# Altium footprint library STM32H753AII6.PcbLib: 1 footprints
Each footprint in its own frame and in the unit in brackets; x right, y up, seen from the top. Pads: shape width x height; smd on the part's side, far side on the other; paste and mask are expansions set on the pad; w line width, h text height; cw(c..) or ccw(c..) is an arc to the next point about the centre after c.
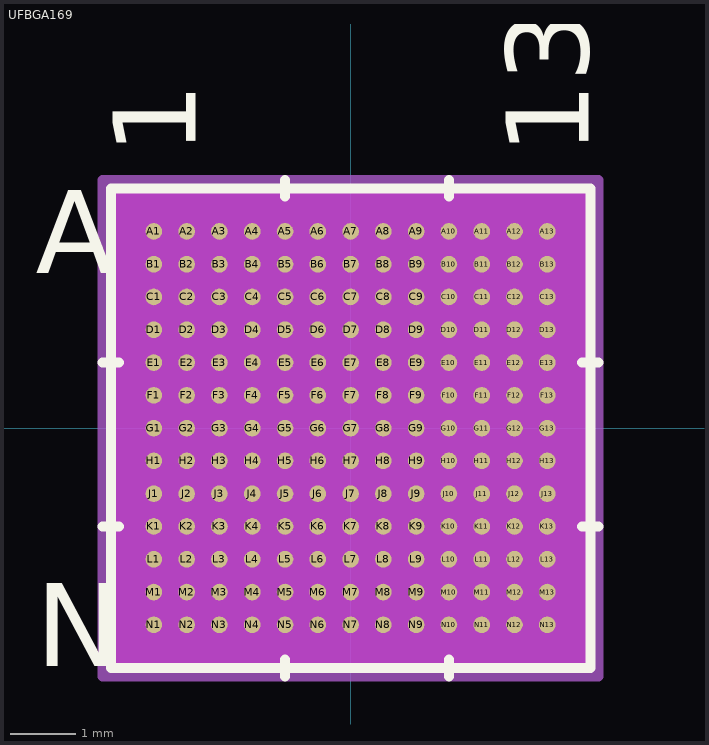
[diagram p0: the footprint, top view; thin cyan lines are the x and y axes]

## UFBGA169 [mil]
pads (169):
  round 10 smd paste+0 mask+0: A1(-118.11,118.11) A2(-98.43,118.11) A3(-78.74,118.11) A4(-59.06,118.11) A5(-39.37,118.11) A6(-19.68,118.11) A7(0,118.11) A8(19.68,118.11) A9(39.37,118.11) A10(59.06,118.11) A11(78.74,118.11) A12(98.43,118.11) A13(118.11,118.11) B1(-118.11,98.43) B2(-98.43,98.43) B3(-78.74,98.43) B4(-59.06,98.43) B5(-39.37,98.43) B6(-19.68,98.43) B7(0,98.43) B8(19.68,98.43) B9(39.37,98.43) B10(59.06,98.43) B11(78.74,98.43) B12(98.43,98.43) B13(118.11,98.43) C1(-118.11,78.74) C2(-98.43,78.74) C3(-78.74,78.74) C4(-59.06,78.74) C5(-39.37,78.74) C6(-19.68,78.74) C7(0,78.74) C8(19.68,78.74) C9(39.37,78.74) C10(59.06,78.74) C11(78.74,78.74) C12(98.43,78.74) C13(118.11,78.74) D1(-118.11,59.06) D2(-98.43,59.06) D3(-78.74,59.06) D4(-59.06,59.06) D5(-39.37,59.06) D6(-19.68,59.06) D7(0,59.06) D8(19.68,59.06) D9(39.37,59.06) D10(59.06,59.06) D11(78.74,59.06) D12(98.43,59.06) D13(118.11,59.06) E1(-118.11,39.37) E2(-98.43,39.37) E3(-78.74,39.37) E4(-59.06,39.37) E5(-39.37,39.37) E6(-19.68,39.37) E7(0,39.37) E8(19.68,39.37) E9(39.37,39.37) E10(59.06,39.37) E11(78.74,39.37) E12(98.43,39.37) E13(118.11,39.37) F1(-118.11,19.68) F2(-98.43,19.68) F3(-78.74,19.68) F4(-59.06,19.68) F5(-39.37,19.68) F6(-19.68,19.68) F7(0,19.68) F8(19.68,19.68) F9(39.37,19.68) F10(59.06,19.68) F11(78.74,19.68) F12(98.43,19.68) F13(118.11,19.68) G1(-118.11,0) G2(-98.43,0) G3(-78.74,0) G4(-59.06,0) G5(-39.37,0) G6(-19.68,0) G7(0,0) G8(19.68,0) G9(39.37,0) G10(59.06,0) G11(78.74,0) G12(98.43,0) G13(118.11,0) H1(-118.11,-19.68) H2(-98.43,-19.68) H3(-78.74,-19.68) H4(-59.06,-19.68) H5(-39.37,-19.68) H6(-19.68,-19.68) H7(0,-19.68) H8(19.68,-19.68) H9(39.37,-19.68) H10(59.06,-19.68) H11(78.74,-19.68) H12(98.43,-19.68) H13(118.11,-19.68) J1(-118.11,-39.37) J2(-98.43,-39.37) J3(-78.74,-39.37) J4(-59.06,-39.37) J5(-39.37,-39.37) J6(-19.68,-39.37) J7(0,-39.37) J8(19.68,-39.37) J9(39.37,-39.37) J10(59.06,-39.37) J11(78.74,-39.37) J12(98.43,-39.37) J13(118.11,-39.37) K1(-118.11,-59.06) K2(-98.43,-59.06) K3(-78.74,-59.06) K4(-59.06,-59.06) K5(-39.37,-59.06) K6(-19.68,-59.06) K7(0,-59.06) K8(19.68,-59.06) K9(39.37,-59.06) K10(59.06,-59.06) K11(78.74,-59.06) K12(98.43,-59.06) K13(118.11,-59.06) L1(-118.11,-78.74) L2(-98.43,-78.74) L3(-78.74,-78.74) L4(-59.06,-78.74) L5(-39.37,-78.74) L6(-19.68,-78.74) L7(0,-78.74) L8(19.68,-78.74) L9(39.37,-78.74) L10(59.06,-78.74) L11(78.74,-78.74) L12(98.43,-78.74) L13(118.11,-78.74) M1(-118.11,-98.43) M2(-98.43,-98.43) M3(-78.74,-98.43) M4(-59.06,-98.43) M5(-39.37,-98.43) M6(-19.68,-98.43) M7(0,-98.43) M8(19.68,-98.43) M9(39.37,-98.43) M10(59.06,-98.43) M11(78.74,-98.43) M12(98.43,-98.43) M13(118.11,-98.43) N1(-118.11,-118.11) N2(-98.43,-118.11) N3(-78.74,-118.11) N4(-59.06,-118.11) N5(-39.37,-118.11) N6(-19.68,-118.11) N7(0,-118.11) N8(19.68,-118.11) N9(39.37,-118.11) N10(59.06,-118.11) N11(78.74,-118.11) N12(98.43,-118.11) N13(118.11,-118.11)
Top Overlay:
  lines w6: -149,-59.06 -139,-59.06 ; -149,39.37 -139,39.37 ; -39.37,-149 -39.37,-139 ; -39.37,139 -39.37,149 ; 59.06,-149 59.06,-139 ; 59.06,139 59.06,149 ; 139,-59.06 149,-59.06 ; 139,39.37 149,39.37 ; -144,-144 144,-144 144,144 -144,144 -144,-144
  text "A" at -189,93.11 h50
  text "N" at -189,-143.11 h50
  text "1" at -93.11,164 h50
  text "13" at 143.11,164 h50
Bottom Overlay:
  text "A" at -164,93.11 h50
  text "N" at -164,-143.11 h50
  text "1" at -143.11,164 h50
  text "13" at 93.11,164 h50
Keep-Out Layer:
  region: -145.45,-145.45 -145.45,145.45 145.45,145.45 145.45,-145.45
Mechanical 13:
  lines w1: -139,129.16 -129.16,139 ; -139,-139 139,-139 139,139 -139,139 -139,-139
  text "A" at -189,93.11 h50
  text "N" at -189,-143.11 h50
  text "1" at -93.11,164 h50
  text "13" at 143.11,164 h50
Mechanical 15:
  region: 149,-149 -149,-149 -149,149 149,149
  lines w6: -149,-149 -149,149 149,149 149,-149 -149,-149
3D body "UFBGA169.step": height 24.09, standoff 0, extent -139.02,-139.02 139.02,139.02